# EAGLE library part 4WAYS_LEVEL_SHIFTER (library FunModules)
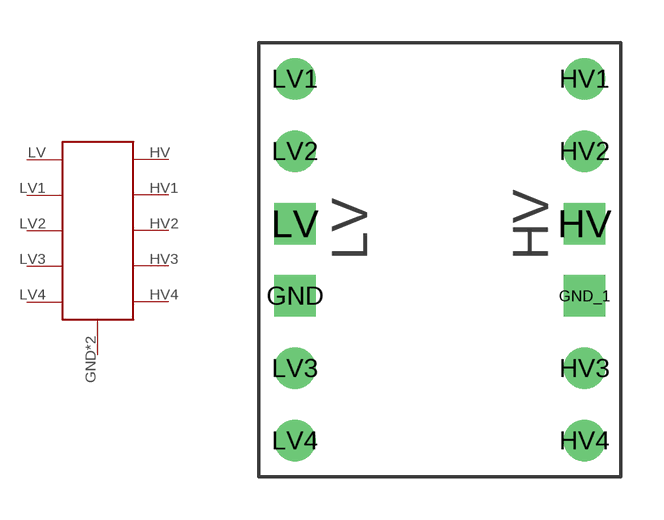
[diagram p1: symbol with the pads of 4WAYS_LEVEL_SHIFTER; footprint 4WAYS_LEVEL_SHIFTER]

Designator prefix -

## 4WAYS_LEVEL_SHIFTER  [4WAYS_LEVEL_SHIFTER]
GND  GND
GND_1  GND
HV  HV
HV1  HV1
HV2  HV2
HV3  HV3
HV4  HV4
LV  LV
LV1  LV1
LV2  LV2
LV3  LV3
LV4  LV4

## Footprint 4WAYS_LEVEL_SHIFTER (pad centres in mm)
drill 0.95 square: GND -5.08,-1.27; GND_1 5.08,-1.27; HV 5.08,1.27; LV -5.08,1.27
drill 0.95: HV1 5.08,6.35; HV2 5.08,3.81; HV3 5.08,-3.81; HV4 5.08,-6.35; LV1 -5.08,6.35; LV2 -5.08,3.81; LV3 -5.08,-3.81; LV4 -5.08,-6.35